# Altium footprint library Dual-In-Line Package.PcbLib: 149 footprints (part 8 of 10)
Each footprint in its own frame and in the unit in brackets; x right, y up, seen from the top. Pads: shape width x height; smd on the part's side, far side on the other; paste and mask are expansions set on the pad; w line width, h text height; cw(c..) or ccw(c..) is an arc to the next point about the centre after c.
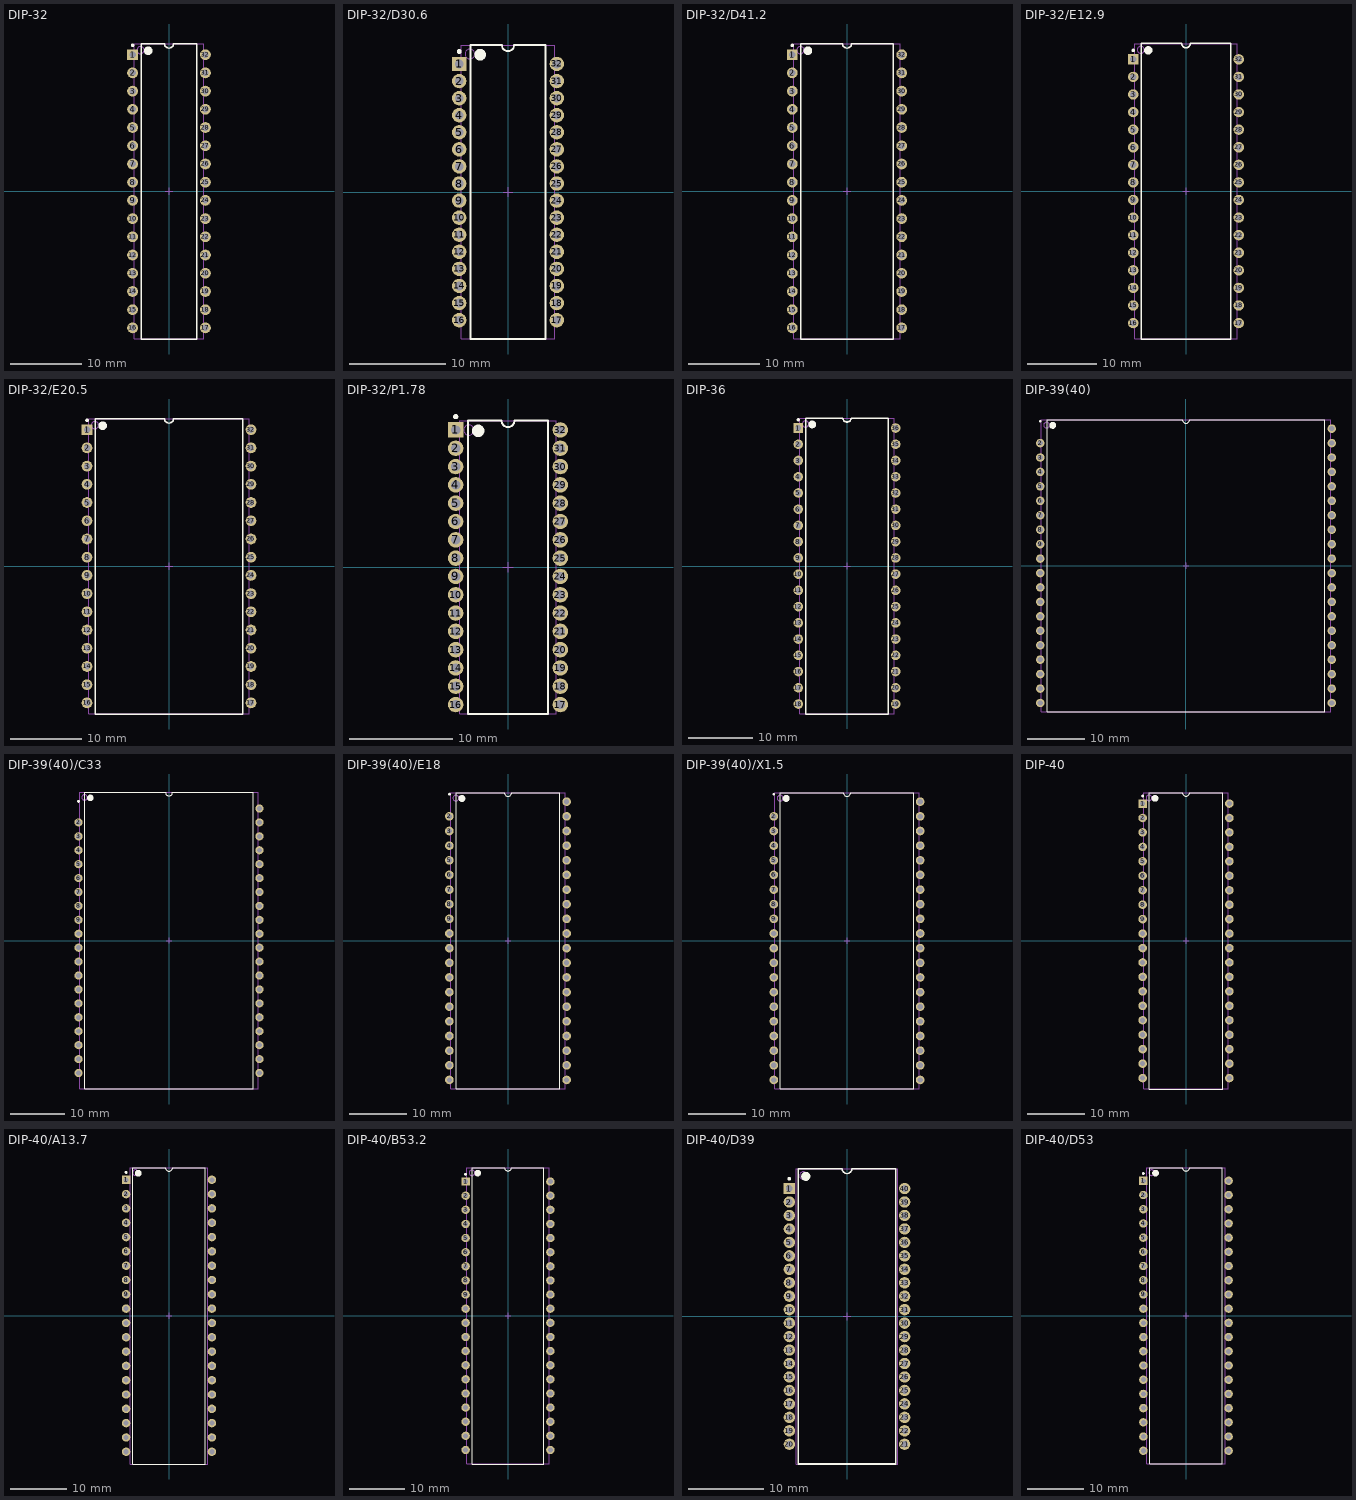
[diagram p7: the footprints below, top view; thin cyan lines are the x and y axes]

## DIP-32 [mm] "DIP, Plastic, 32-Pin, Row Spacing 10.16 mm, Pitch 2.54 mm"
height 5.34
pads (32):
  rect 1.5x1.5 hole 0.9: 1(-5.08,19.05)
  round 1.5 hole 0.9: 2(-5.08,16.51) 3(-5.08,13.97) 4(-5.08,11.43) 5(-5.08,8.89) 6(-5.08,6.35) 7(-5.08,3.81) 8(-5.08,1.27) 9(-5.08,-1.27) 10(-5.08,-3.81) 11(-5.08,-6.35) 12(-5.08,-8.89) 13(-5.08,-11.43) 14(-5.08,-13.97) 15(-5.08,-16.51) 16(-5.08,-19.05) 17(5.08,-19.05) 18(5.08,-16.51) 19(5.08,-13.97) 20(5.08,-11.43) 21(5.08,-8.89) 22(5.08,-6.35) 23(5.08,-3.81) 24(5.08,-1.27) 25(5.08,1.27) 26(5.08,3.81) 27(5.08,6.35) 28(5.08,8.89) 29(5.08,11.43) 30(5.08,13.97) 31(5.08,16.51) 32(5.08,19.05)
Top Overlay:
  circle w0.25: c-5.08,20.35 r0.125
  circle w0.6: c-2.9,19.6 r0.3
  lines w0.2: -3.9,-20.6 -3.9,20.6 -0.635,20.6 ccw(c0,20.6) 0.635,20.6 3.9,20.6 3.9,-20.6 -3.9,-20.6
Mechanical 13:
  circle w0.1: c-3.975,19.675 r0.5
  lines w0.1: -4.875,-20.575 -4.875,20.575 4.875,20.575 4.875,-20.575 -4.875,-20.575
Mechanical 15:
  lines w0.1: -0.5,0 0.5,0 ; 0,-0.5 0,0.5

## DIP-32/D30.6 [mm] "DIP, Ceramic, Shrink, 32-Pin, Row Spacing 10.16 mm, Pitch 1.778 mm"
height 4.75
pads (32):
  rect 1.5x1.5 hole 0.9: 1(-5.08,13.335)
  round 1.5 hole 0.9: 2(-5.08,11.557) 3(-5.08,9.779) 4(-5.08,8.001) 5(-5.08,6.223) 6(-5.08,4.445) 7(-5.08,2.667) 8(-5.08,0.889) 9(-5.08,-0.889) 10(-5.08,-2.667) 11(-5.08,-4.445) 12(-5.08,-6.223) 13(-5.08,-8.001) 14(-5.08,-9.779) 15(-5.08,-11.557) 16(-5.08,-13.335) 17(5.08,-13.335) 18(5.08,-11.557) 19(5.08,-9.779) 20(5.08,-8.001) 21(5.08,-6.223) 22(5.08,-4.445) 23(5.08,-2.667) 24(5.08,-0.889) 25(5.08,0.889) 26(5.08,2.667) 27(5.08,4.445) 28(5.08,6.223) 29(5.08,8.001) 30(5.08,9.779) 31(5.08,11.557) 32(5.08,13.335)
Top Overlay:
  circle w0.25: c-5.08,14.635 r0.125
  circle w0.6: c-2.9,14.3 r0.3
  lines w0.2: -3.9,-15.3 -3.9,15.3 -0.635,15.3 ccw(c0,15.3) 0.635,15.3 3.9,15.3 3.9,-15.3 -3.9,-15.3
Mechanical 13:
  circle w0.1: c-3.975,14.375 r0.5
  lines w0.1: -4.875,-15.275 -4.875,15.275 4.875,15.275 4.875,-15.275 -4.875,-15.275
Mechanical 15:
  lines w0.1: -0.5,0 0.5,0 ; 0,-0.5 0,0.5

## DIP-32/D41.2 [mm] "DIP, Ceramic, 32-Pin, Row Spacing 15.24 mm, Pitch 2.54 mm"
height 5.08
pads (32):
  rect 1.5x1.5 hole 0.9: 1(-7.62,19.05)
  round 1.5 hole 0.9: 2(-7.62,16.51) 3(-7.62,13.97) 4(-7.62,11.43) 5(-7.62,8.89) 6(-7.62,6.35) 7(-7.62,3.81) 8(-7.62,1.27) 9(-7.62,-1.27) 10(-7.62,-3.81) 11(-7.62,-6.35) 12(-7.62,-8.89) 13(-7.62,-11.43) 14(-7.62,-13.97) 15(-7.62,-16.51) 16(-7.62,-19.05) 17(7.62,-19.05) 18(7.62,-16.51) 19(7.62,-13.97) 20(7.62,-11.43) 21(7.62,-8.89) 22(7.62,-6.35) 23(7.62,-3.81) 24(7.62,-1.27) 25(7.62,1.27) 26(7.62,3.81) 27(7.62,6.35) 28(7.62,8.89) 29(7.62,11.43) 30(7.62,13.97) 31(7.62,16.51) 32(7.62,19.05)
Top Overlay:
  circle w0.25: c-7.62,20.35 r0.125
  circle w0.6: c-5.45,19.6 r0.3
  lines w0.2: -6.45,-20.6 -6.45,20.6 -0.635,20.6 ccw(c0,20.6) 0.635,20.6 6.45,20.6 6.45,-20.6 -6.45,-20.6
Mechanical 13:
  circle w0.1: c-6.5,19.675 r0.5
  lines w0.1: -7.4,-20.575 -7.4,20.575 7.4,20.575 7.4,-20.575 -7.4,-20.575
Mechanical 15:
  lines w0.1: -0.5,0 0.5,0 ; 0,-0.5 0,0.5
3D body: height 5.79, standoff -3.3, extent -7.618,-21.02 7.618,21.02

## DIP-32/E12.9 [mm] "DIP, Plastic, 32-Pin, Row Spacing 15.24 mm, Pitch 2.54 mm"
height 5.08
pads (32):
  rect 1.5x1.5 hole 0.9: 1(-7.62,19.05)
  round 1.5 hole 0.9: 2(-7.62,16.51) 3(-7.62,13.97) 4(-7.62,11.43) 5(-7.62,8.89) 6(-7.62,6.35) 7(-7.62,3.81) 8(-7.62,1.27) 9(-7.62,-1.27) 10(-7.62,-3.81) 11(-7.62,-6.35) 12(-7.62,-8.89) 13(-7.62,-11.43) 14(-7.62,-13.97) 15(-7.62,-16.51) 16(-7.62,-19.05) 17(7.62,-19.05) 18(7.62,-16.51) 19(7.62,-13.97) 20(7.62,-11.43) 21(7.62,-8.89) 22(7.62,-6.35) 23(7.62,-3.81) 24(7.62,-1.27) 25(7.62,1.27) 26(7.62,3.81) 27(7.62,6.35) 28(7.62,8.89) 29(7.62,11.43) 30(7.62,13.97) 31(7.62,16.51) 32(7.62,19.05)
Top Overlay:
  circle w0.25: c-7.62,20.35 r0.125
  circle w0.6: c-5.45,20.35 r0.3
  lines w0.2: -6.45,-21.35 -6.45,21.35 -0.635,21.35 ccw(c0,21.35) 0.635,21.35 6.45,21.35 6.45,-21.35 -6.45,-21.35
Mechanical 13:
  circle w0.1: c-6.525,20.425 r0.5
  lines w0.1: -7.425,-21.325 -7.425,21.325 7.425,21.325 7.425,-21.325 -7.425,-21.325
Mechanical 15:
  lines w0.1: -0.5,0 0.5,0 ; 0,-0.5 0,0.5

## DIP-32/E20.5 [mm] "DIP, 32-Pin, Row Spacing 22.86 mm, Pitch 2.54 mm"
height 4.72
pads (32):
  rect 1.5x1.5 hole 0.9: 1(-11.43,19.05)
  round 1.5 hole 0.9: 2(-11.43,16.51) 3(-11.43,13.97) 4(-11.43,11.43) 5(-11.43,8.89) 6(-11.43,6.35) 7(-11.43,3.81) 8(-11.43,1.27) 9(-11.43,-1.27) 10(-11.43,-3.81) 11(-11.43,-6.35) 12(-11.43,-8.89) 13(-11.43,-11.43) 14(-11.43,-13.97) 15(-11.43,-16.51) 16(-11.43,-19.05) 17(11.43,-19.05) 18(11.43,-16.51) 19(11.43,-13.97) 20(11.43,-11.43) 21(11.43,-8.89) 22(11.43,-6.35) 23(11.43,-3.81) 24(11.43,-1.27) 25(11.43,1.27) 26(11.43,3.81) 27(11.43,6.35) 28(11.43,8.89) 29(11.43,11.43) 30(11.43,13.97) 31(11.43,16.51) 32(11.43,19.05)
Top Overlay:
  circle w0.25: c-11.43,20.35 r0.125
  circle w0.6: c-9.25,19.6 r0.3
  lines w0.2: -10.25,-20.6 -10.25,20.6 -0.635,20.6 ccw(c0,20.6) 0.635,20.6 10.25,20.6 10.25,-20.6 -10.25,-20.6
Mechanical 13:
  circle w0.1: c-10.325,19.675 r0.5
  lines w0.1: -11.225,-20.575 -11.225,20.575 11.225,20.575 11.225,-20.575 -11.225,-20.575
Mechanical 15:
  lines w0.1: -0.5,0 0.5,0 ; 0,-0.5 0,0.5

## DIP-32/P1.78 [mm] "DIP, Plastic Shrink, 32-Pin, Row Spacing 10.16 mm, Pitch 1.778 mm"
height 5.08
pads (32):
  rect 1.5x1.5 hole 0.9: 1(-5.08,13.335)
  round 1.5 hole 0.9: 2(-5.08,11.557) 3(-5.08,9.779) 4(-5.08,8.001) 5(-5.08,6.223) 6(-5.08,4.445) 7(-5.08,2.667) 8(-5.08,0.889) 9(-5.08,-0.889) 10(-5.08,-2.667) 11(-5.08,-4.445) 12(-5.08,-6.223) 13(-5.08,-8.001) 14(-5.08,-9.779) 15(-5.08,-11.557) 16(-5.08,-13.335) 17(5.08,-13.335) 18(5.08,-11.557) 19(5.08,-9.779) 20(5.08,-8.001) 21(5.08,-6.223) 22(5.08,-4.445) 23(5.08,-2.667) 24(5.08,-0.889) 25(5.08,0.889) 26(5.08,2.667) 27(5.08,4.445) 28(5.08,6.223) 29(5.08,8.001) 30(5.08,9.779) 31(5.08,11.557) 32(5.08,13.335)
Top Overlay:
  circle w0.25: c-5.08,14.635 r0.125
  circle w0.6: c-2.9,13.25 r0.3
  lines w0.2: -3.9,-14.25 -3.9,14.25 -0.635,14.25 ccw(c0,14.25) 0.635,14.25 3.9,14.25 3.9,-14.25 -3.9,-14.25
Mechanical 13:
  circle w0.1: c-3.8,13.325 r0.5
  lines w0.1: -4.7,-14.225 -4.7,14.225 4.7,14.225 4.7,-14.225 -4.7,-14.225
Mechanical 15:
  lines w0.1: -0.5,0 0.5,0 ; 0,-0.5 0,0.5

## DIP-36 [mm] "DIP, Ceramic, 36-Pin, Row Spacing 15.24 mm, Pitch 2.54 mm"
height 5.08
pads (36):
  rect 1.5x1.5 hole 0.9: 1(-7.62,21.59)
  round 1.5 hole 0.9: 2(-7.62,19.05) 3(-7.62,16.51) 4(-7.62,13.97) 5(-7.62,11.43) 6(-7.62,8.89) 7(-7.62,6.35) 8(-7.62,3.81) 9(-7.62,1.27) 10(-7.62,-1.27) 11(-7.62,-3.81) 12(-7.62,-6.35) 13(-7.62,-8.89) 14(-7.62,-11.43) 15(-7.62,-13.97) 16(-7.62,-16.51) 17(-7.62,-19.05) 18(-7.62,-21.59) 19(7.62,-21.59) 20(7.62,-19.05) 21(7.62,-16.51) 22(7.62,-13.97) 23(7.62,-11.43) 24(7.62,-8.89) 25(7.62,-6.35) 26(7.62,-3.81) 27(7.62,-1.27) 28(7.62,1.27) 29(7.62,3.81) 30(7.62,6.35) 31(7.62,8.89) 32(7.62,11.43) 33(7.62,13.97) 34(7.62,16.51) 35(7.62,19.05) 36(7.62,21.59)
Top Overlay:
  circle w0.25: c-7.62,22.89 r0.125
  circle w0.6: c-5.45,22.15 r0.3
  lines w0.2: -6.45,-23.15 -6.45,23.15 -0.635,23.15 ccw(c0,23.15) 0.635,23.15 6.45,23.15 6.45,-23.15 -6.45,-23.15
Mechanical 13:
  circle w0.1: c-6.5,22.225 r0.5
  lines w0.1: -7.4,-23.125 -7.4,23.125 7.4,23.125 7.4,-23.125 -7.4,-23.125
Mechanical 15:
  lines w0.1: -0.5,0 0.5,0 ; 0,-0.5 0,0.5

## DIP-39(40) [mm] "DIP, 40-Pin (1 Absent), Row Spacing 51.269 mm, Pitch 2.54 mm"
height 7.3
pads (39):
  round 1.5 hole 0.9: 2(-25.635,21.59) 3(-25.635,19.05) 4(-25.635,16.51) 5(-25.635,13.97) 6(-25.635,11.43) 7(-25.635,8.89) 8(-25.635,6.35) 9(-25.635,3.81) 10(-25.635,1.27) 11(-25.635,-1.27) 12(-25.635,-3.81) 13(-25.635,-6.35) 14(-25.635,-8.89) 15(-25.635,-11.43) 16(-25.635,-13.97) 17(-25.635,-16.51) 18(-25.635,-19.05) 19(-25.635,-21.59) 20(-25.635,-24.13) 21(25.635,-24.13) 22(25.635,-21.59) 23(25.635,-19.05) 24(25.635,-16.51) 25(25.635,-13.97) 26(25.635,-11.43) 27(25.635,-8.89) 28(25.635,-6.35) 29(25.635,-3.81) 30(25.635,-1.27) 31(25.635,1.27) 32(25.635,3.81) 33(25.635,6.35) 34(25.635,8.89) 35(25.635,11.43) 36(25.635,13.97) 37(25.635,16.51) 38(25.635,19.05) 39(25.635,21.59) 40(25.635,24.13)
Top Overlay:
  circle w0.25: c-25.635,25.43 r0.125
  circle w0.6: c-23.45,24.7 r0.3
  lines w0.2: -24.45,-25.7 -24.45,25.7 -0.635,25.7 ccw(c0,25.7) 0.635,25.7 24.45,25.7 24.45,-25.7 -24.45,-25.7
Mechanical 13:
  circle w0.1: c-24.525,24.75 r0.5
  lines w0.1: -25.425,-25.65 -25.425,25.65 25.425,25.65 25.425,-25.65 -25.425,-25.65
Mechanical 15:
  lines w0.1: -0.5,0 0.5,0 ; 0,-0.5 0,0.5

## DIP-39(40)/C33 [mm] "DIP, 40-Pin (1 Absent), Row Spacing 33 mm, Pitch 2.54 mm"
height 10.17
pads (39):
  round 1.5 hole 0.9: 2(-16.5,21.59) 3(-16.5,19.05) 4(-16.5,16.51) 5(-16.5,13.97) 6(-16.5,11.43) 7(-16.5,8.89) 8(-16.5,6.35) 9(-16.5,3.81) 10(-16.5,1.27) 11(-16.5,-1.27) 12(-16.5,-3.81) 13(-16.5,-6.35) 14(-16.5,-8.89) 15(-16.5,-11.43) 16(-16.5,-13.97) 17(-16.5,-16.51) 18(-16.5,-19.05) 19(-16.5,-21.59) 20(-16.5,-24.13) 21(16.5,-24.13) 22(16.5,-21.59) 23(16.5,-19.05) 24(16.5,-16.51) 25(16.5,-13.97) 26(16.5,-11.43) 27(16.5,-8.89) 28(16.5,-6.35) 29(16.5,-3.81) 30(16.5,-1.27) 31(16.5,1.27) 32(16.5,3.81) 33(16.5,6.35) 34(16.5,8.89) 35(16.5,11.43) 36(16.5,13.97) 37(16.5,16.51) 38(16.5,19.05) 39(16.5,21.59) 40(16.5,24.13)
Top Overlay:
  circle w0.25: c-16.5,25.43 r0.125
  circle w0.6: c-14.35,26.05 r0.3
  lines w0.2: -15.35,-27.05 -15.35,27.05 -0.635,27.05 ccw(c0,27.05) 0.635,27.05 15.35,27.05 15.35,-27.05 -15.35,-27.05
Mechanical 13:
  circle w0.1: c-15.4,26.15 r0.5
  lines w0.1: -16.3,-27.05 -16.3,27.05 16.3,27.05 16.3,-27.05 -16.3,-27.05
Mechanical 15:
  lines w0.1: -0.5,0 0.5,0 ; 0,-0.5 0,0.5

## DIP-39(40)/E18 [mm] "DIP, 40-Pin (1 Absent), Row Spacing 20.32 mm, Pitch 2.54 mm"
height 8.65
pads (39):
  round 1.5 hole 0.9: 2(-10.16,21.59) 3(-10.16,19.05) 4(-10.16,16.51) 5(-10.16,13.97) 6(-10.16,11.43) 7(-10.16,8.89) 8(-10.16,6.35) 9(-10.16,3.81) 10(-10.16,1.27) 11(-10.16,-1.27) 12(-10.16,-3.81) 13(-10.16,-6.35) 14(-10.16,-8.89) 15(-10.16,-11.43) 16(-10.16,-13.97) 17(-10.16,-16.51) 18(-10.16,-19.05) 19(-10.16,-21.59) 20(-10.16,-24.13) 21(10.16,-24.13) 22(10.16,-21.59) 23(10.16,-19.05) 24(10.16,-16.51) 25(10.16,-13.97) 26(10.16,-11.43) 27(10.16,-8.89) 28(10.16,-6.35) 29(10.16,-3.81) 30(10.16,-1.27) 31(10.16,1.27) 32(10.16,3.81) 33(10.16,6.35) 34(10.16,8.89) 35(10.16,11.43) 36(10.16,13.97) 37(10.16,16.51) 38(10.16,19.05) 39(10.16,21.59) 40(10.16,24.13)
Top Overlay:
  circle w0.6: c-8,24.7 r0.3
  circle w0.25: c-10.16,25.43 r0.125
  lines w0.2: -9,-25.7 9,-25.7 9,25.7 0.635,25.7 cw(c0,25.7) -0.635,25.7 -9,25.7 -9,-25.7
Mechanical 13:
  circle w0.1: c-9.05,24.75 r0.5
  lines w0.1: -9.95,-25.65 9.95,-25.65 9.95,25.65 -9.95,25.65 -9.95,-25.65
Mechanical 15:
  lines w0.1: -0.5,0 0.5,0 ; 0,-0.5 0,0.5

## DIP-39(40)/X1.5 [mm] "DIP, 40-Pin (1 Absent), Row Spacing 25.4 mm, Pitch 2.54 mm"
height 7.62
pads (39):
  round 1.5 hole 0.9: 2(-12.7,21.59) 3(-12.7,19.05) 4(-12.7,16.51) 5(-12.7,13.97) 6(-12.7,11.43) 7(-12.7,8.89) 8(-12.7,6.35) 9(-12.7,3.81) 10(-12.7,1.27) 11(-12.7,-1.27) 12(-12.7,-3.81) 13(-12.7,-6.35) 14(-12.7,-8.89) 15(-12.7,-11.43) 16(-12.7,-13.97) 17(-12.7,-16.51) 18(-12.7,-19.05) 19(-12.7,-21.59) 20(-12.7,-24.13) 21(12.7,-24.13) 22(12.7,-21.59) 23(12.7,-19.05) 24(12.7,-16.51) 25(12.7,-13.97) 26(12.7,-11.43) 27(12.7,-8.89) 28(12.7,-6.35) 29(12.7,-3.81) 30(12.7,-1.27) 31(12.7,1.27) 32(12.7,3.81) 33(12.7,6.35) 34(12.7,8.89) 35(12.7,11.43) 36(12.7,13.97) 37(12.7,16.51) 38(12.7,19.05) 39(12.7,21.59) 40(12.7,24.13)
Top Overlay:
  circle w0.6: c-10.55,24.7 r0.3
  circle w0.25: c-12.7,25.43 r0.125
  lines w0.2: -11.55,-25.7 11.55,-25.7 11.55,25.7 0.635,25.7 cw(c0,25.7) -0.635,25.7 -11.55,25.7 -11.55,-25.7
Mechanical 13:
  circle w0.1: c-11.6,24.75 r0.5
  lines w0.1: -12.5,-25.65 12.5,-25.65 12.5,25.65 -12.5,25.65 -12.5,-25.65
Mechanical 15:
  lines w0.1: -0.5,0 0.5,0 ; 0,-0.5 0,0.5

## DIP-40 [mm] "DIP, 40-Pin, Row Spacing 15.24 mm, Pitch 2.54 mm"
height 5.08
pads (40):
  rect 1.5x1.5 hole 0.9: 1(-7.62,24.13)
  round 1.5 hole 0.9: 2(-7.62,21.59) 3(-7.62,19.05) 4(-7.62,16.51) 5(-7.62,13.97) 6(-7.62,11.43) 7(-7.62,8.89) 8(-7.62,6.35) 9(-7.62,3.81) 10(-7.62,1.27) 11(-7.62,-1.27) 12(-7.62,-3.81) 13(-7.62,-6.35) 14(-7.62,-8.89) 15(-7.62,-11.43) 16(-7.62,-13.97) 17(-7.62,-16.51) 18(-7.62,-19.05) 19(-7.62,-21.59) 20(-7.62,-24.13) 21(7.62,-24.13) 22(7.62,-21.59) 23(7.62,-19.05) 24(7.62,-16.51) 25(7.62,-13.97) 26(7.62,-11.43) 27(7.62,-8.89) 28(7.62,-6.35) 29(7.62,-3.81) 30(7.62,-1.27) 31(7.62,1.27) 32(7.62,3.81) 33(7.62,6.35) 34(7.62,8.89) 35(7.62,11.43) 36(7.62,13.97) 37(7.62,16.51) 38(7.62,19.05) 39(7.62,21.59) 40(7.62,24.13)
Top Overlay:
  circle w0.25: c-7.62,25.43 r0.125
  circle w0.6: c-5.45,25.05 r0.3
  lines w0.2: -6.45,-26.05 -6.45,26.05 -0.635,26.05 ccw(c0,26.05) 0.635,26.05 6.45,26.05 6.45,-26.05 -6.45,-26.05
Mechanical 13:
  circle w0.1: c-6.525,25.125 r0.5
  lines w0.1: -7.425,-26.025 -7.425,26.025 7.425,26.025 7.425,-26.025 -7.425,-26.025
Mechanical 15:
  lines w0.1: -0.5,0 0.5,0 ; 0,-0.5 0,0.5
3D body: height 5.7, standoff -2.58, extent -7.745,-26.225 7.745,26.225

## DIP-40/A13.7 [mm] "DIP, 40-Leads, Row Spacing 15.24mm, Pitch 2.54mm, Body 52.1x13.3mm"
height 5.72
pads (40):
  rect 1.5x1.5 hole 0.9: 1(-7.62,24.13)
  round 1.5 hole 0.9: 2(-7.62,21.59) 3(-7.62,19.05) 4(-7.62,16.51) 5(-7.62,13.97) 6(-7.62,11.43) 7(-7.62,8.89) 8(-7.62,6.35) 9(-7.62,3.81) 10(-7.62,1.27) 11(-7.62,-1.27) 12(-7.62,-3.81) 13(-7.62,-6.35) 14(-7.62,-8.89) 15(-7.62,-11.43) 16(-7.62,-13.97) 17(-7.62,-16.51) 18(-7.62,-19.05) 19(-7.62,-21.59) 20(-7.62,-24.13) 21(7.62,-24.13) 22(7.62,-21.59) 23(7.62,-19.05) 24(7.62,-16.51) 25(7.62,-13.97) 26(7.62,-11.43) 27(7.62,-8.89) 28(7.62,-6.35) 29(7.62,-3.81) 30(7.62,-1.27) 31(7.62,1.27) 32(7.62,3.81) 33(7.62,6.35) 34(7.62,8.89) 35(7.62,11.43) 36(7.62,13.97) 37(7.62,16.51) 38(7.62,19.05) 39(7.62,21.59) 40(7.62,24.13)
Top Overlay:
  circle w0.6: c-5.45,25.3 r0.3
  circle w0.25: c-7.62,25.43 r0.125
  lines w0.2: -6.45,-26.3 6.45,-26.3 6.45,26.3 0.635,26.3 cw(c0,26.3) -0.635,26.3 -6.45,26.3 -6.45,-26.3
Mechanical 13:
  circle w0.1: c-5.95,25.4 r0.5
  lines w0.1: -6.85,-26.3 6.85,-26.3 6.85,26.3 -6.85,26.3 -6.85,-26.3
Mechanical 15:
  lines w0.1: -0.5,0 0.5,0 ; 0,-0.5 0,0.5
3D body: height 5.7, standoff -2.58, extent -7.79,-26.2 7.7,26.25

## DIP-40/B53.2 [mm] "DIP, 40-Leads, Row Spacing 15.24mm, Pitch 2.54mm, Body 51.8x13.5mm"
height 6.35
pads (40):
  rect 1.5x1.5 hole 0.9: 1(-7.62,24.13)
  round 1.5 hole 0.9: 2(-7.62,21.59) 3(-7.62,19.05) 4(-7.62,16.51) 5(-7.62,13.97) 6(-7.62,11.43) 7(-7.62,8.89) 8(-7.62,6.35) 9(-7.62,3.81) 10(-7.62,1.27) 11(-7.62,-1.27) 12(-7.62,-3.81) 13(-7.62,-6.35) 14(-7.62,-8.89) 15(-7.62,-11.43) 16(-7.62,-13.97) 17(-7.62,-16.51) 18(-7.62,-19.05) 19(-7.62,-21.59) 20(-7.62,-24.13) 21(7.62,-24.13) 22(7.62,-21.59) 23(7.62,-19.05) 24(7.62,-16.51) 25(7.62,-13.97) 26(7.62,-11.43) 27(7.62,-8.89) 28(7.62,-6.35) 29(7.62,-3.81) 30(7.62,-1.27) 31(7.62,1.27) 32(7.62,3.81) 33(7.62,6.35) 34(7.62,8.89) 35(7.62,11.43) 36(7.62,13.97) 37(7.62,16.51) 38(7.62,19.05) 39(7.62,21.59) 40(7.62,24.13)
Top Overlay:
  circle w0.25: c-7.62,25.43 r0.125
  circle w0.6: c-5.45,25.65 r0.3
  lines w0.2: -6.45,-26.65 -6.45,26.65 -0.635,26.65 ccw(c0,26.65) 0.635,26.65 6.45,26.65 6.45,-26.65 -6.45,-26.65
Mechanical 13:
  circle w0.1: c-6.475,25.7 r0.5
  lines w0.1: -7.375,-26.6 -7.375,26.6 7.375,26.6 7.375,-26.6 -7.375,-26.6
Mechanical 15:
  lines w0.1: -0.5,0 0.5,0 ; 0,-0.5 0,0.5
3D body: height 5.7, standoff -2.58, extent -7.8,-26.25 7.69,26.2

## DIP-40/D39 [mm] "DIP, 40-Pin, Row Spacing 15.24 mm, Pitch 1.778 mm"
height 5.08
pads (40):
  rect 1.5x1.5 hole 0.9: 1(-7.62,16.891)
  round 1.5 hole 0.9: 2(-7.62,15.113) 3(-7.62,13.335) 4(-7.62,11.557) 5(-7.62,9.779) 6(-7.62,8.001) 7(-7.62,6.223) 8(-7.62,4.445) 9(-7.62,2.667) 10(-7.62,0.889) 11(-7.62,-0.889) 12(-7.62,-2.667) 13(-7.62,-4.445) 14(-7.62,-6.223) 15(-7.62,-8.001) 16(-7.62,-9.779) 17(-7.62,-11.557) 18(-7.62,-13.335) 19(-7.62,-15.113) 20(-7.62,-16.891) 21(7.62,-16.891) 22(7.62,-15.113) 23(7.62,-13.335) 24(7.62,-11.557) 25(7.62,-9.779) 26(7.62,-8.001) 27(7.62,-6.223) 28(7.62,-4.445) 29(7.62,-2.667) 30(7.62,-0.889) 31(7.62,0.889) 32(7.62,2.667) 33(7.62,4.445) 34(7.62,6.223) 35(7.62,8.001) 36(7.62,9.779) 37(7.62,11.557) 38(7.62,13.335) 39(7.62,15.113) 40(7.62,16.891)
Top Overlay:
  circle w0.25: c-7.62,18.191 r0.125
  circle w0.6: c-5.45,18.5 r0.3
  lines w0.2: -6.45,-19.5 -6.45,19.5 -0.635,19.5 ccw(c0,19.5) 0.635,19.5 6.45,19.5 6.45,-19.5 -6.45,-19.5
Mechanical 13:
  circle w0.1: c-5.775,18.6 r0.5
  lines w0.1: -6.675,-19.5 -6.675,19.5 6.675,19.5 6.675,-19.5 -6.675,-19.5
Mechanical 15:
  lines w0.1: -0.5,0 0.5,0 ; 0,-0.5 0,0.5

## DIP-40/D53 [mm] "40-Pin Ceramic Dual In-Line Package (CerDIP)"
height 5.72
pads (40):
  rect 1.5x1.5 hole 0.9: 1(-7.62,24.13)
  round 1.5 hole 0.9: 2(-7.62,21.59) 3(-7.62,19.05) 4(-7.62,16.51) 5(-7.62,13.97) 6(-7.62,11.43) 7(-7.62,8.89) 8(-7.62,6.35) 9(-7.62,3.81) 10(-7.62,1.27) 11(-7.62,-1.27) 12(-7.62,-3.81) 13(-7.62,-6.35) 14(-7.62,-8.89) 15(-7.62,-11.43) 16(-7.62,-13.97) 17(-7.62,-16.51) 18(-7.62,-19.05) 19(-7.62,-21.59) 20(-7.62,-24.13) 21(7.62,-24.13) 22(7.62,-21.59) 23(7.62,-19.05) 24(7.62,-16.51) 25(7.62,-13.97) 26(7.62,-11.43) 27(7.62,-8.89) 28(7.62,-6.35) 29(7.62,-3.81) 30(7.62,-1.27) 31(7.62,1.27) 32(7.62,3.81) 33(7.62,6.35) 34(7.62,8.89) 35(7.62,11.43) 36(7.62,13.97) 37(7.62,16.51) 38(7.62,19.05) 39(7.62,21.59) 40(7.62,24.13)
Top Overlay:
  circle w0.25: c-7.62,25.43 r0.125
  circle w0.6: c-5.45,25.5 r0.3
  lines w0.2: -6.45,-26.5 -6.45,26.5 -0.635,26.5 ccw(c0,26.5) 0.635,26.5 6.45,26.5 6.45,-26.5 -6.45,-26.5
Mechanical 13:
  circle w0.1: c-6.15,25.575 r0.5
  lines w0.1: -7.05,-26.475 -7.05,26.475 7.05,26.475 7.05,-26.475 -7.05,-26.475
Mechanical 15:
  lines w0.1: -0.5,0 0.5,0 ; 0,-0.5 0,0.5
3D body: height 5.7, standoff -2.58, extent -7.745,-26.225 7.745,26.225